# EAGLE library part VHB150W (library cui)
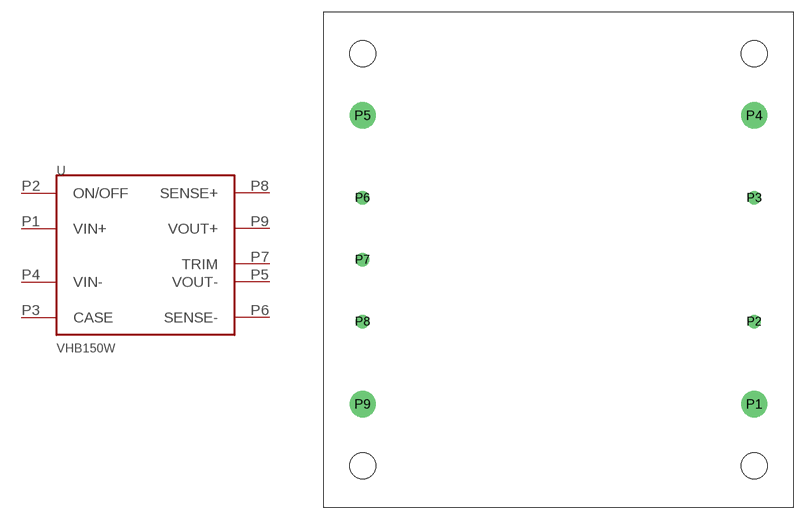
[diagram p1: symbol with the pads of VHB150W; footprint VHB150W]

Designator prefix -

## VHB150W  [VHB150W]
P1  VIN+
P2  ON/OFF
P3  CASE
P4  VIN-
P5  VOUT-
P6  SENSE-
P7  TRIM
P8  SENSE+
P9  VOUT+

## Footprint VHB150W (pad centres in mm)
drill 2.2: P1 24.1,-17.78; P4 24.1,17.78; P5 -24.1,17.78; P9 -24.1,-17.78
drill 1.1: P2 24.1,-7.62; P3 24.1,7.62; P6 -24.1,7.62; P7 -24.1,0; P8 -24.1,-7.62
hole 3.2 at 24.1,25.4
hole 3.2 at -24.1,25.4
hole 3.2 at -24.1,-25.4
hole 3.2 at 24.1,-25.4